# EAGLE library part EDGE13X2 (library dec-con)
13x2 Keyed Edge Connector
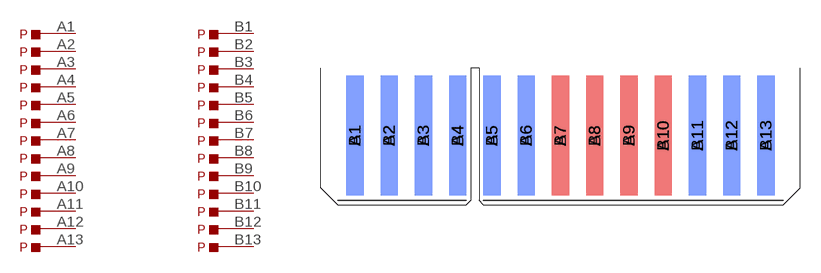
[diagram p66: symbol with the pads of EDGE13X2; footprint EDGE13X2]

Designator prefix P; gates A1=PIN B1=PIN A2=PIN A3=PIN A4=PIN A5=PIN A6=PIN A7=PIN A8=PIN A9=PIN A10=PIN A11=PIN A12=PIN A13=PIN B2=PIN B3=PIN B4=PIN B5=PIN B6=PIN B7=PIN B8=PIN B9=PIN B10=PIN B11=PIN B12=PIN B13=PIN

## EDGE13X2  [EDGE13X2]
A1  A1:P  pas
A2  A2:P  pas
A3  A3:P  pas
A4  A4:P  pas
A5  A5:P  pas
A6  A6:P  pas
A7  A7:P  pas
A8  A8:P  pas
A9  A9:P  pas
A10  A10:P  pas
A11  A11:P  pas
A12  A12:P  pas
A13  A13:P  pas
B1  B1:P  pas
B2  B2:P  pas
B3  B3:P  pas
B4  B4:P  pas
B5  B5:P  pas
B6  B6:P  pas
B7  B7:P  pas
B8  B8:P  pas
B9  B9:P  pas
B10  B10:P  pas
B11  B11:P  pas
B12  B12:P  pas
B13  B13:P  pas

## Footprint EDGE13X2 (pad centres in mm)
Keyed 13x2 edge connector with 0.1" spacing
smd 1.27 x 8.89: A1 -15.24,3.873; A2 -12.7,3.873; A3 -10.16,3.873; A4 -7.62,3.873; A5 -5.08,3.873; A6 -2.54,3.873; A7 0,3.873; A8 2.54,3.873; A9 5.08,3.873; A10 7.62,3.873; A11 10.16,3.873; A12 12.7,3.873; A13 15.24,3.873
smd 1.27 x 8.89 bottom: B1 -15.24,3.873; B2 -12.7,3.873; B3 -10.16,3.873; B4 -7.62,3.873; B5 -5.08,3.873; B6 -2.54,3.873; B7 0,3.873; B8 2.54,3.873; B9 5.08,3.873; B10 7.62,3.873; B11 10.16,3.873; B12 12.7,3.873; B13 15.24,3.873